# Altium footprint library Capacitor_THT.PcbLib: 378 footprints (part 17 of 24)
Each footprint in its own frame and in the unit in brackets; x right, y up, seen from the top. Pads: shape width x height; smd on the part's side, far side on the other; paste and mask are expansions set on the pad; w line width, h text height; cw(c..) or ccw(c..) is an arc to the next point about the centre after c.
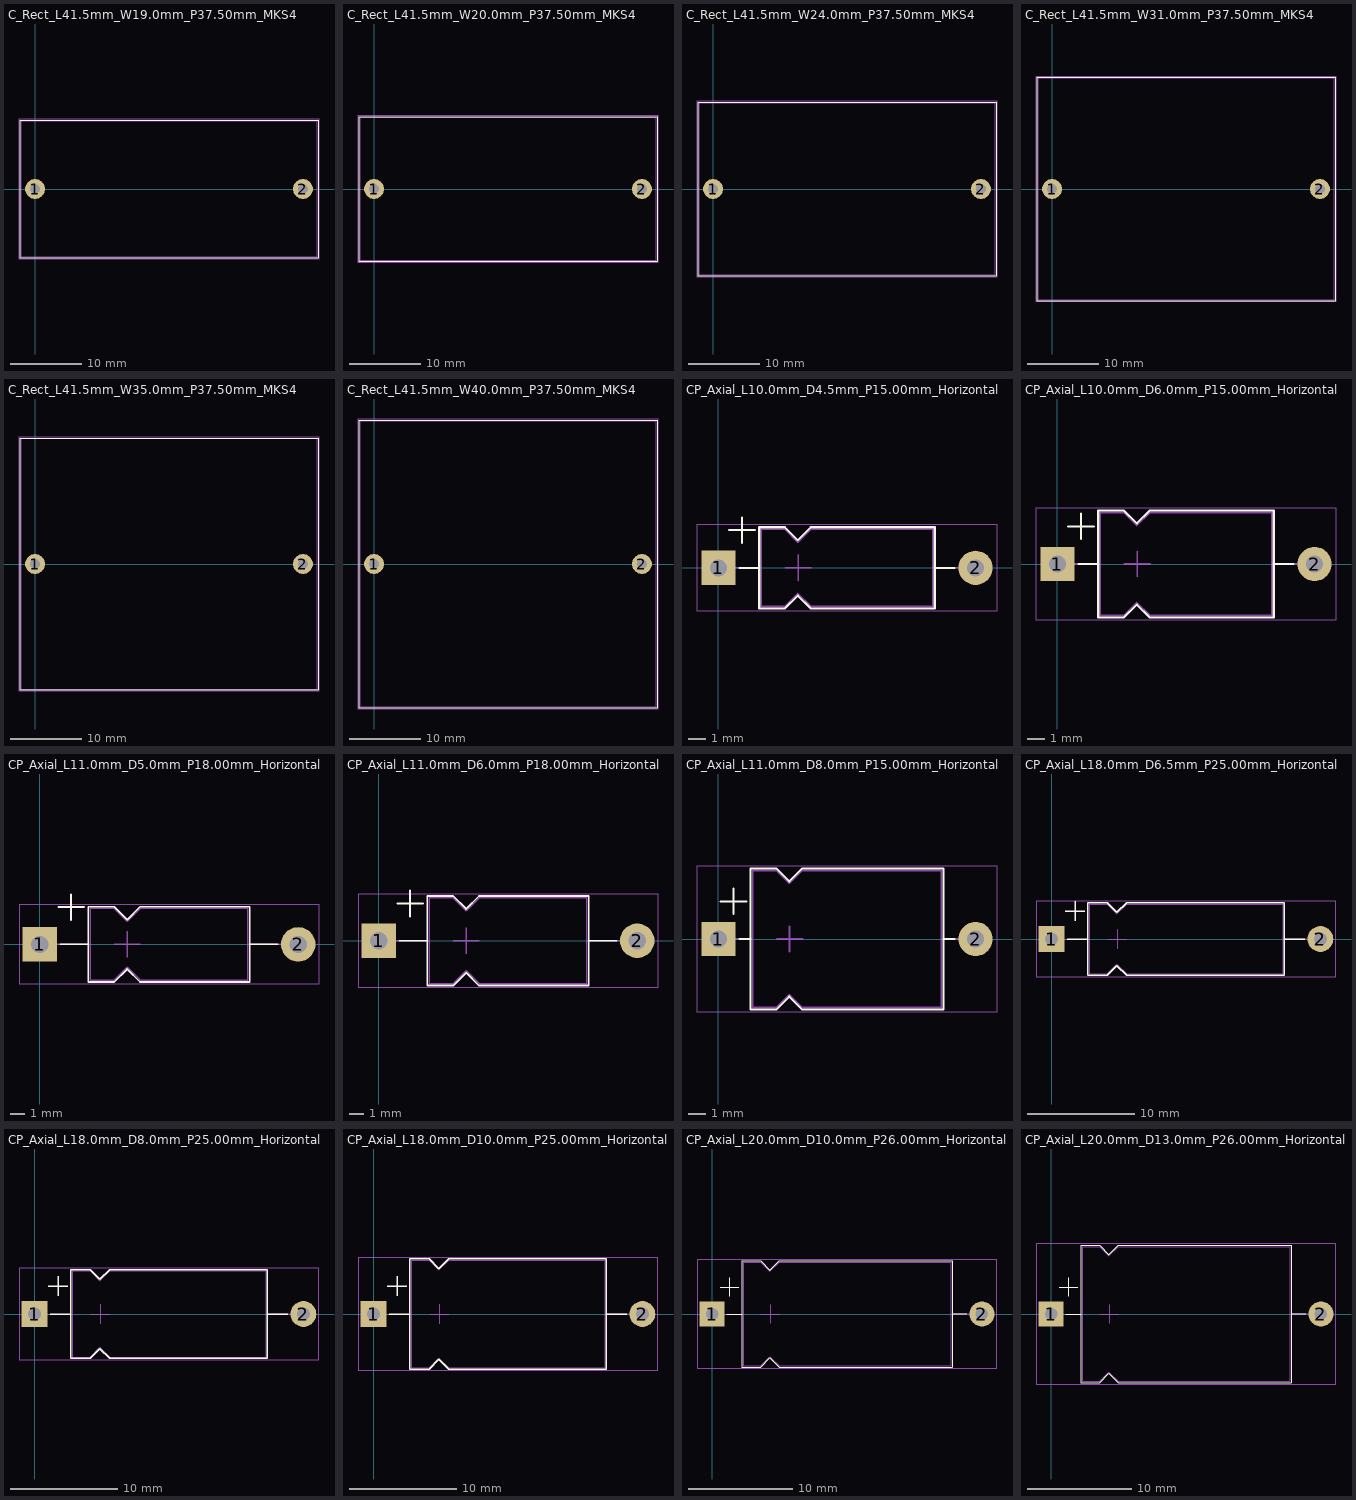
[diagram p16: the footprints below, top view; thin cyan lines are the x and y axes]

## C_Rect_L41.5mm_W19.0mm_P37.50mm_MKS4 [mm]
pads (2):
  round 2.8 hole 1.4: 1(0,0) 2(37.5,0)
F.SilkS:
  lines w0.12: -2.12,-9.62 -2.12,9.62 39.62,9.62 39.62,-9.62 -2.12,-9.62
F.CrtYd:
  lines w0.05: -2.25,-9.75 -2.25,9.75 39.75,9.75 39.75,-9.75 -2.25,-9.75
F.Fab:
  lines w0.1: -2,-9.5 39.5,-9.5 39.5,9.5 -2,9.5 -2,-9.5
  text "'.Designator'" at 14.703,-0.84 h1

## C_Rect_L41.5mm_W20.0mm_P37.50mm_MKS4 [mm]
pads (2):
  round 2.8 hole 1.4: 1(0,0) 2(37.5,0)
F.SilkS:
  lines w0.12: -2.12,-10.12 -2.12,10.12 39.62,10.12 39.62,-10.12 -2.12,-10.12
F.CrtYd:
  lines w0.05: -2.25,-10.25 -2.25,10.25 39.75,10.25 39.75,-10.25 -2.25,-10.25
F.Fab:
  lines w0.1: -2,-10 -2,10 39.5,10 39.5,-10 -2,-10
  text "'.Designator'" at 14.703,-0.84 h1

## C_Rect_L41.5mm_W24.0mm_P37.50mm_MKS4 [mm]
pads (2):
  round 2.8 hole 1.4: 1(0,0) 2(37.5,0)
F.SilkS:
  lines w0.12: -2.12,-12.12 -2.12,12.12 39.62,12.12 39.62,-12.12 -2.12,-12.12
F.CrtYd:
  lines w0.05: -2.25,-12.25 -2.25,12.25 39.75,12.25 39.75,-12.25 -2.25,-12.25
F.Fab:
  lines w0.1: -2,-12 39.5,-12 39.5,12 -2,12 -2,-12
  text "'.Designator'" at 14.703,-0.84 h1

## C_Rect_L41.5mm_W31.0mm_P37.50mm_MKS4 [mm]
pads (2):
  round 2.8 hole 1.4: 1(0,0) 2(37.5,0)
F.SilkS:
  lines w0.12: -2.12,-15.62 39.62,-15.62 39.62,15.62 -2.12,15.62 -2.12,-15.62
F.CrtYd:
  lines w0.05: -2.25,-15.75 39.75,-15.75 39.75,15.75 -2.25,15.75 -2.25,-15.75
F.Fab:
  lines w0.1: -2,-15.5 39.5,-15.5 39.5,15.5 -2,15.5 -2,-15.5
  text "'.Designator'" at 14.703,-0.84 h1

## C_Rect_L41.5mm_W35.0mm_P37.50mm_MKS4 [mm]
pads (2):
  round 2.8 hole 1.4: 1(0,0) 2(37.5,0)
F.SilkS:
  lines w0.12: -2.12,-17.62 39.62,-17.62 39.62,17.62 -2.12,17.62 -2.12,-17.62
F.CrtYd:
  lines w0.05: -2.25,-17.75 -2.25,17.75 39.75,17.75 39.75,-17.75 -2.25,-17.75
F.Fab:
  lines w0.1: -2,-17.5 39.5,-17.5 39.5,17.5 -2,17.5 -2,-17.5
  text "'.Designator'" at 14.703,-0.84 h1

## C_Rect_L41.5mm_W40.0mm_P37.50mm_MKS4 [mm]
pads (2):
  round 2.8 hole 1.4: 1(0,0) 2(37.5,0)
F.SilkS:
  lines w0.12: -2.12,-20.12 39.62,-20.12 39.62,20.12 -2.12,20.12 -2.12,-20.12
F.CrtYd:
  lines w0.05: -2.25,-20.25 39.75,-20.25 39.75,20.25 -2.25,20.25 -2.25,-20.25
F.Fab:
  lines w0.1: -2,-20 39.5,-20 39.5,20 -2,20 -2,-20
  text "'.Designator'" at 14.703,-0.84 h1

## CP_Axial_L10.0mm_D4.5mm_P15.00mm_Horizontal [mm]
pads (2):
  rect 2x2 hole 1: 1(0,0)
  rrect100% 2x2 hole 1: 2(15,0)
F.SilkS:
  lines w0.12: 0.63,2.2 2.13,2.2 ; 1.24,0 2.38,0 ; 1.38,1.45 1.38,2.95 ; 12.62,0 13.76,0 ; 2.38,-2.37 2.38,2.37 3.88,2.37 4.63,1.62 5.38,2.37 12.62,2.37 12.62,-2.37 5.38,-2.37 4.63,-1.62 3.88,-2.37 2.38,-2.37
F.CrtYd:
  lines w0.05: -1.25,-2.5 16.25,-2.5 16.25,2.5 -1.25,2.5 -1.25,-2.5
F.Fab:
  lines w0.1: 0,0 2.5,0 ; 3.9,0 5.4,0 ; 4.65,-0.75 4.65,0.75 ; 12.5,0 15,0 ; 2.5,-2.25 3.88,-2.25 4.63,-1.5 5.38,-2.25 12.5,-2.25 12.5,2.25 5.38,2.25 4.63,1.5 3.88,2.25 2.5,2.25 2.5,-2.25
  text "'.Designator'" at 3.453,-0.84 h1

## CP_Axial_L10.0mm_D6.0mm_P15.00mm_Horizontal [mm]
pads (2):
  rect 2x2 hole 1: 1(0,0)
  rrect100% 2x2 hole 1: 2(15,0)
F.SilkS:
  lines w0.12: 0.63,2.2 2.13,2.2 ; 1.24,0 2.38,0 ; 1.38,1.45 1.38,2.95 ; 12.62,0 13.76,0 ; 2.38,-3.12 3.88,-3.12 4.63,-2.37 5.38,-3.12 12.62,-3.12 12.62,3.12 5.38,3.12 4.63,2.37 3.88,3.12 2.38,3.12 2.38,-3.12
F.CrtYd:
  lines w0.05: -1.25,-3.25 16.25,-3.25 16.25,3.25 -1.25,3.25 -1.25,-3.25
F.Fab:
  lines w0.1: 0,0 2.5,0 ; 3.9,0 5.4,0 ; 4.65,-0.75 4.65,0.75 ; 12.5,0 15,0 ; 2.5,-3 3.88,-3 4.63,-2.25 5.38,-3 12.5,-3 12.5,3 5.38,3 4.63,2.25 3.88,3 2.5,3 2.5,-3
  text "'.Designator'" at 3.453,-0.84 h1

## CP_Axial_L11.0mm_D5.0mm_P18.00mm_Horizontal [mm]
pads (2):
  rect 2.4x2.4 hole 1.2: 1(0,0)
  rrect100% 2.4x2.4 hole 1.2: 2(18,0)
F.SilkS:
  lines w0.12: 1.28,2.6 3.08,2.6 ; 1.44,0 3.38,0 ; 2.18,1.7 2.18,3.5 ; 14.62,0 16.56,0 ; 3.38,-2.62 3.38,2.62 5.18,2.62 6.08,1.72 6.98,2.62 14.62,2.62 14.62,-2.62 6.98,-2.62 6.08,-1.72 5.18,-2.62 3.38,-2.62
F.CrtYd:
  lines w0.05: -1.45,-2.75 -1.45,2.75 19.45,2.75 19.45,-2.75 -1.45,-2.75
F.Fab:
  lines w0.1: 0,0 3.5,0 ; 5.2,0 7,0 ; 6.1,-0.9 6.1,0.9 ; 14.5,0 18,0 ; 3.5,-2.5 3.5,2.5 5.18,2.5 6.08,1.6 6.98,2.5 14.5,2.5 14.5,-2.5 6.98,-2.5 6.08,-1.6 5.18,-2.5 3.5,-2.5
  text "'.Designator'" at 4.953,-0.84 h1

## CP_Axial_L11.0mm_D6.0mm_P18.00mm_Horizontal [mm]
pads (2):
  rect 2.4x2.4 hole 1.2: 1(0,0)
  rrect100% 2.4x2.4 hole 1.2: 2(18,0)
F.SilkS:
  lines w0.12: 1.28,2.6 3.08,2.6 ; 1.44,0 3.38,0 ; 2.18,1.7 2.18,3.5 ; 14.62,0 16.56,0 ; 3.38,-3.12 3.38,3.12 5.18,3.12 6.08,2.22 6.98,3.12 14.62,3.12 14.62,-3.12 6.98,-3.12 6.08,-2.22 5.18,-3.12 3.38,-3.12
F.CrtYd:
  lines w0.05: -1.45,-3.25 -1.45,3.25 19.45,3.25 19.45,-3.25 -1.45,-3.25
F.Fab:
  lines w0.1: 0,0 3.5,0 ; 5.2,0 7,0 ; 6.1,-0.9 6.1,0.9 ; 14.5,0 18,0 ; 3.5,-3 3.5,3 5.18,3 6.08,2.1 6.98,3 14.5,3 14.5,-3 6.98,-3 6.08,-2.1 5.18,-3 3.5,-3
  text "'.Designator'" at 4.953,-0.84 h1

## CP_Axial_L11.0mm_D8.0mm_P15.00mm_Horizontal [mm]
pads (2):
  rect 2x2 hole 1: 1(0,0)
  rrect100% 2x2 hole 1: 2(15,0)
F.SilkS:
  lines w0.12: 0.13,2.2 1.63,2.2 ; 0.88,1.45 0.88,2.95 ; 1.24,0 1.88,0 ; 13.12,0 13.76,0 ; 1.88,-4.12 1.88,4.12 3.38,4.12 4.13,3.37 4.88,4.12 13.12,4.12 13.12,-4.12 4.88,-4.12 4.13,-3.37 3.38,-4.12 1.88,-4.12
F.CrtYd:
  lines w0.05: -1.25,-4.25 16.25,-4.25 16.25,4.25 -1.25,4.25 -1.25,-4.25
F.Fab:
  lines w0.1: 0,0 2,0 ; 3.4,0 4.9,0 ; 4.15,-0.75 4.15,0.75 ; 13,0 15,0 ; 2,-4 2,4 3.38,4 4.13,3.25 4.88,4 13,4 13,-4 4.88,-4 4.13,-3.25 3.38,-4 2,-4
  text "'.Designator'" at 3.453,-0.84 h1

## CP_Axial_L18.0mm_D6.5mm_P25.00mm_Horizontal [mm]
pads (2):
  rect 2.4x2.4 hole 1.2: 1(0,0)
  rrect100% 2.4x2.4 hole 1.2: 2(25,0)
F.SilkS:
  lines w0.12: 1.28,2.6 3.08,2.6 ; 1.44,0 3.38,0 ; 2.18,1.7 2.18,3.5 ; 21.62,0 23.56,0 ; 3.38,-3.37 5.18,-3.37 6.08,-2.47 6.98,-3.37 21.62,-3.37 21.62,3.37 6.98,3.37 6.08,2.47 5.18,3.37 3.38,3.37 3.38,-3.37
F.CrtYd:
  lines w0.05: -1.45,-3.5 26.45,-3.5 26.45,3.5 -1.45,3.5 -1.45,-3.5
F.Fab:
  lines w0.1: 0,0 3.5,0 ; 5.2,0 7,0 ; 6.1,-0.9 6.1,0.9 ; 21.5,0 25,0 ; 3.5,-3.25 5.18,-3.25 6.08,-2.35 6.98,-3.25 21.5,-3.25 21.5,3.25 6.98,3.25 6.08,2.35 5.18,3.25 3.5,3.25 3.5,-3.25
  text "'.Designator'" at 8.453,-0.84 h1

## CP_Axial_L18.0mm_D8.0mm_P25.00mm_Horizontal [mm]
pads (2):
  rect 2.4x2.4 hole 1.2: 1(0,0)
  rrect100% 2.4x2.4 hole 1.2: 2(25,0)
F.SilkS:
  lines w0.12: 1.28,2.6 3.08,2.6 ; 1.44,0 3.38,0 ; 2.18,1.7 2.18,3.5 ; 21.62,0 23.56,0 ; 3.38,-4.12 5.18,-4.12 6.08,-3.22 6.98,-4.12 21.62,-4.12 21.62,4.12 6.98,4.12 6.08,3.22 5.18,4.12 3.38,4.12 3.38,-4.12
F.CrtYd:
  lines w0.05: -1.45,-4.25 26.45,-4.25 26.45,4.25 -1.45,4.25 -1.45,-4.25
F.Fab:
  lines w0.1: 0,0 3.5,0 ; 5.2,0 7,0 ; 6.1,-0.9 6.1,0.9 ; 21.5,0 25,0 ; 3.5,-4 5.18,-4 6.08,-3.1 6.98,-4 21.5,-4 21.5,4 6.98,4 6.08,3.1 5.18,4 3.5,4 3.5,-4
  text "'.Designator'" at 8.453,-0.84 h1

## CP_Axial_L18.0mm_D10.0mm_P25.00mm_Horizontal [mm]
pads (2):
  rect 2.4x2.4 hole 1.2: 1(0,0)
  rrect100% 2.4x2.4 hole 1.2: 2(25,0)
F.SilkS:
  lines w0.12: 1.28,2.6 3.08,2.6 ; 1.44,0 3.38,0 ; 2.18,1.7 2.18,3.5 ; 21.62,0 23.56,0 ; 3.38,-5.12 5.18,-5.12 6.08,-4.22 6.98,-5.12 21.62,-5.12 21.62,5.12 6.98,5.12 6.08,4.22 5.18,5.12 3.38,5.12 3.38,-5.12
F.CrtYd:
  lines w0.05: -1.45,-5.25 -1.45,5.25 26.45,5.25 26.45,-5.25 -1.45,-5.25
F.Fab:
  lines w0.1: 0,0 3.5,0 ; 5.2,0 7,0 ; 6.1,-0.9 6.1,0.9 ; 21.5,0 25,0 ; 3.5,-5 5.18,-5 6.08,-4.1 6.98,-5 21.5,-5 21.5,5 6.98,5 6.08,4.1 5.18,5 3.5,5 3.5,-5
  text "'.Designator'" at 8.453,-0.84 h1

## CP_Axial_L20.0mm_D10.0mm_P26.00mm_Horizontal [mm]
pads (2):
  rect 2.4x2.4 hole 1.2: 1(0,0)
  rrect100% 2.4x2.4 hole 1.2: 2(26,0)
F.SilkS:
  lines w0.12: 0.78,2.6 2.58,2.6 ; 1.44,0 2.88,0 ; 1.68,1.7 1.68,3.5 ; 23.12,0 24.56,0 ; 2.88,-5.12 2.88,5.12 4.68,5.12 5.58,4.22 6.48,5.12 23.12,5.12 23.12,-5.12 6.48,-5.12 5.58,-4.22 4.68,-5.12 2.88,-5.12
F.CrtYd:
  lines w0.05: -1.45,-5.25 -1.45,5.25 27.45,5.25 27.45,-5.25 -1.45,-5.25
F.Fab:
  lines w0.1: 0,0 3,0 ; 4.7,0 6.5,0 ; 5.6,-0.9 5.6,0.9 ; 23,0 26,0 ; 3,-5 3,5 4.68,5 5.58,4.1 6.48,5 23,5 23,-5 6.48,-5 5.58,-4.1 4.68,-5 3,-5
  text "'.Designator'" at 8.953,-0.84 h1

## CP_Axial_L20.0mm_D13.0mm_P26.00mm_Horizontal [mm]
pads (2):
  rect 2.4x2.4 hole 1.2: 1(0,0)
  rrect100% 2.4x2.4 hole 1.2: 2(26,0)
F.SilkS:
  lines w0.12: 0.78,2.6 2.58,2.6 ; 1.44,0 2.88,0 ; 1.68,1.7 1.68,3.5 ; 23.12,0 24.56,0 ; 2.88,-6.62 4.68,-6.62 5.58,-5.72 6.48,-6.62 23.12,-6.62 23.12,6.62 6.48,6.62 5.58,5.72 4.68,6.62 2.88,6.62 2.88,-6.62
F.CrtYd:
  lines w0.05: -1.45,-6.75 -1.45,6.75 27.45,6.75 27.45,-6.75 -1.45,-6.75
F.Fab:
  lines w0.1: 0,0 3,0 ; 4.7,0 6.5,0 ; 5.6,-0.9 5.6,0.9 ; 23,0 26,0 ; 3,-6.5 3,6.5 4.68,6.5 5.58,5.6 6.48,6.5 23,6.5 23,-6.5 6.48,-6.5 5.58,-5.6 4.68,-6.5 3,-6.5
  text "'.Designator'" at 8.953,-0.84 h1